# Altium schematic symbol library HW_ADHERENT_SYSCTRL_R1_L2.SCHLIB: 1987 symbols (part 4 of 38)
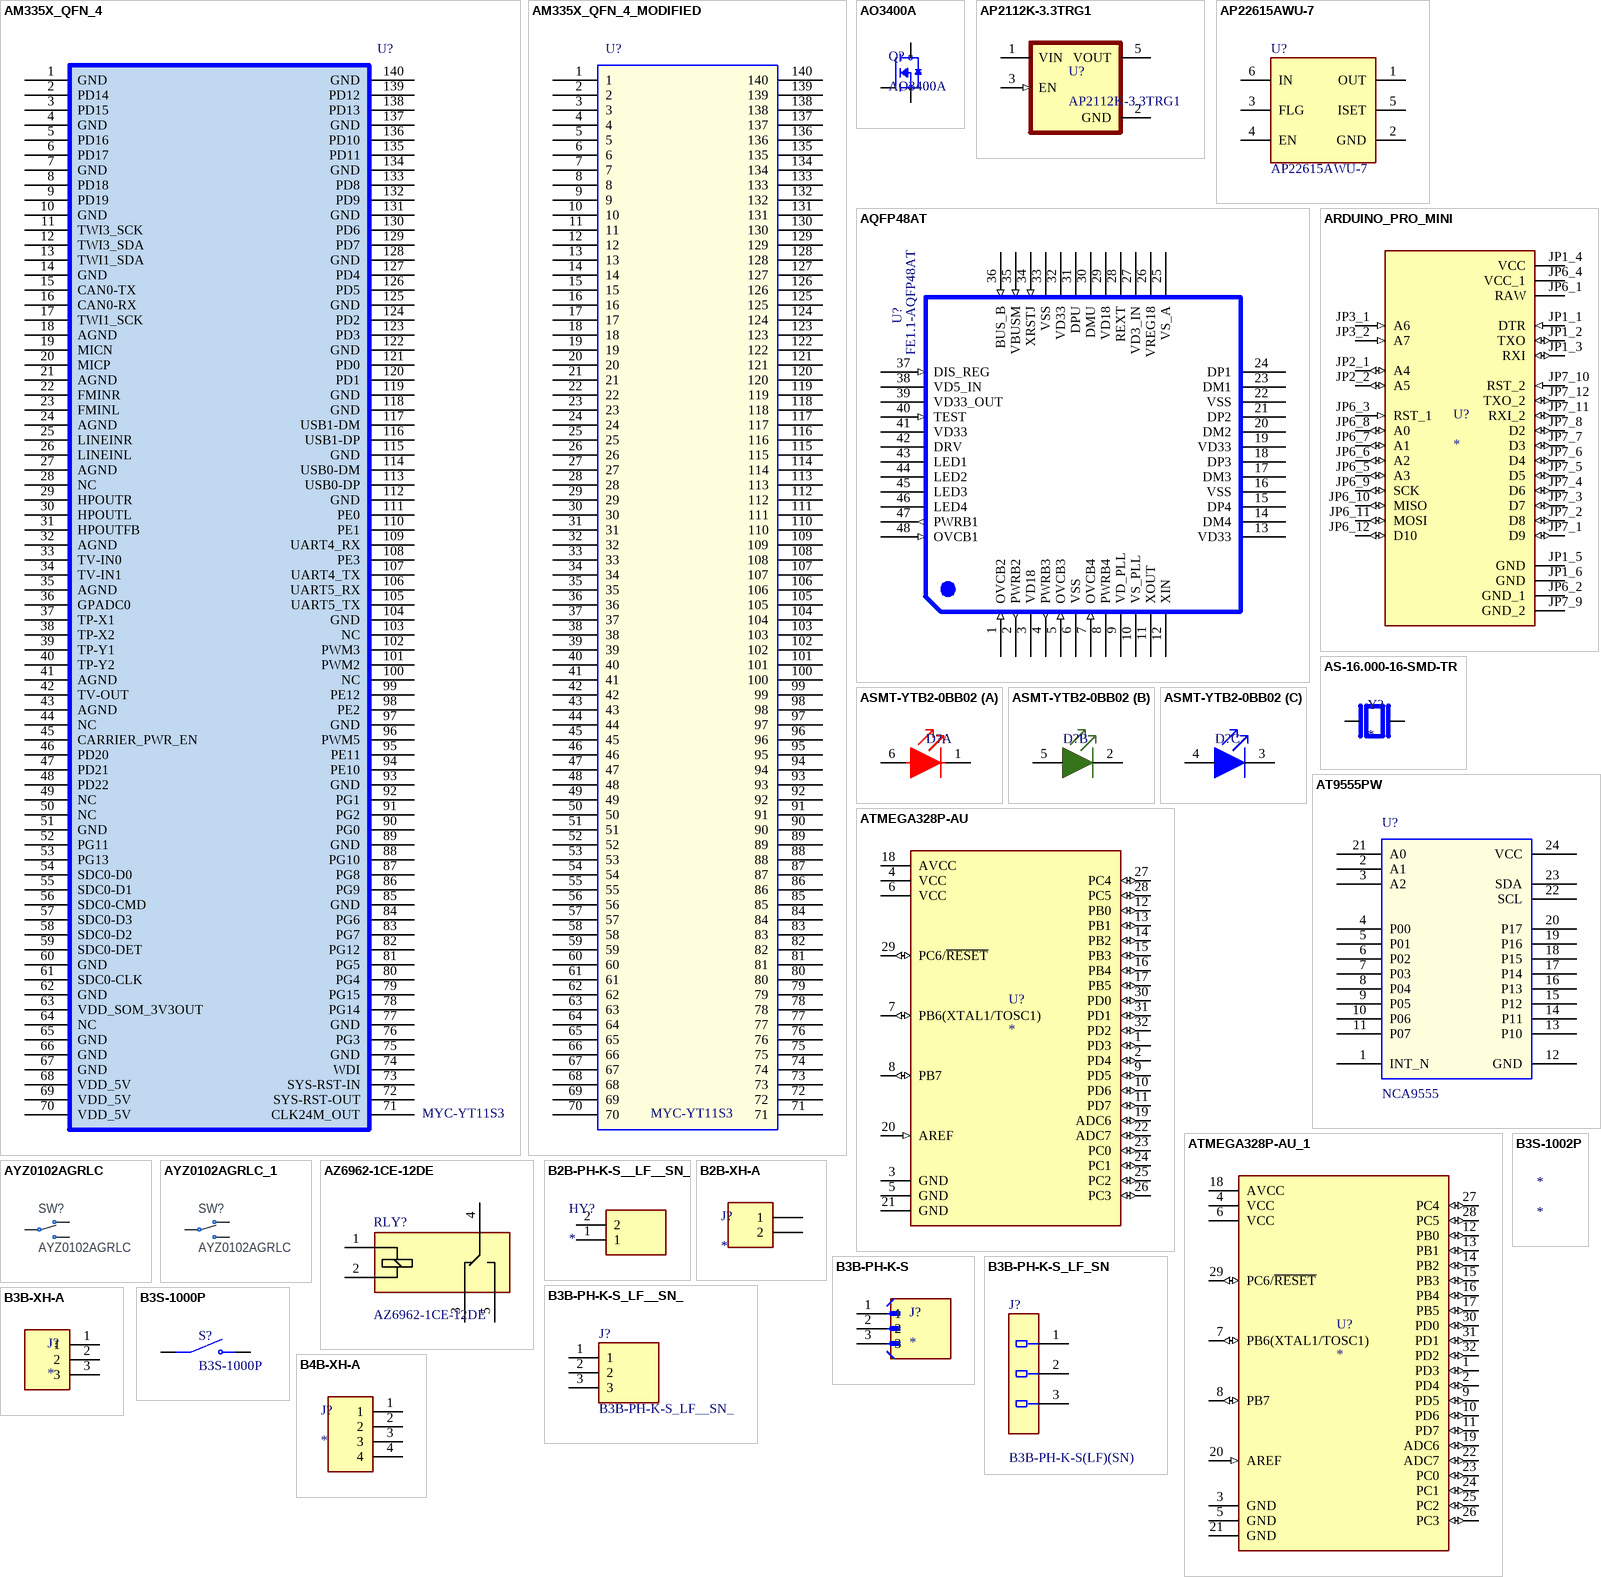
[diagram p65: symbols AM335X_QFN_4 to B4B-XH-A]

## B3S-1002P
designator *
Switch Tactile N.O. SPST Round Button Gull Wing 0.05A 24VDC 300000Cycles 2.26N SMD T/R; Manufacturer: Omron; Manufacturer Part Number: B3S-1002P; Number of Positions: 2NUMBER; Supplier 1: Digikey; RoHS: Yes; Category: Tactile Switches; Stock 1: 127000; Pricing 1: 1000=0.57994, 3000=0.52722, 5000=0.49207, 10000=0.45692 (USD); Contact Material: 150ConductorMaterial; Contact Plating: 159ConductorMaterial; Lead Free: 5697LeadFree; ComponentLink1URL: https://datasheet.ciiva.com/1701/490609-1701107.pdf?src-supplier=Newark; ComponentLink1Description: https://datasheet.ciiva.com/1701/490609-1701107.pdf?src-supplier=Newark; ComponentLink2URL: https://datasheet.ciiva.com/15198/getdatasheetpartid-174803-15198988.pdf?src-supplier=Verical; ComponentLink2Description: https://datasheet.ciiva.com/15198/getdatasheetpartid-174803-15198988.pdf?src-supplier=Verical; ComponentLink3URL: https://datasheet.ciiva.com/15198/getdatasheetpartid-388874-15198987.pdf?src-supplier=Verical; ComponentLink3Description: https://datasheet.ciiva.com/15198/getdatasheetpartid-388874-15198987.pdf?src-supplier=Verical; ComponentLink4URL: https://datasheet.ciiva.com/30228/en-b3s-30228152.pdf?src-supplier=Onlinecomponents.com; ComponentLink4Description: https://datasheet.ciiva.com/30228/en-b3s-30228152.pdf?src-supplier=Onlinecomponents.com; ComponentLink5URL: https://datasheet.ciiva.com/2899/b3s-1110-2899956.pdf?src-supplier=Digikey; ComponentLink5Description: https://datasheet.ciiva.com/2899/b3s-1110-2899956.pdf?src-supplier=Digikey; ComponentLink6URL: https://datasheet.ciiva.com/2899/b3s-1110-2899957.pdf?src-supplier=Digikey; ComponentLink6Description: https://datasheet.ciiva.com/2899/b3s-1110-2899957.pdf?src-supplier=Digikey; ComponentLink7URL: https://datasheet.ciiva.com/2899/b3s-1110-2899958.pdf?src-supplier=Digikey; ComponentLink7Description: https://datasheet.ciiva.com/2899/b3s-1110-2899958.pdf?src-supplier=Digikey; Supplier Part Number 1: SW837TR-ND

## B4B-XH-A
designator J?
MF: {'manufacturer': u'JST Sales America Inc.'}; MP: B4B-XH-A; Package: None; Price: None; Value: *; Availability: Unavailable
footprint JST_B4B-XH-A
pins: 1, 2, 3, 4

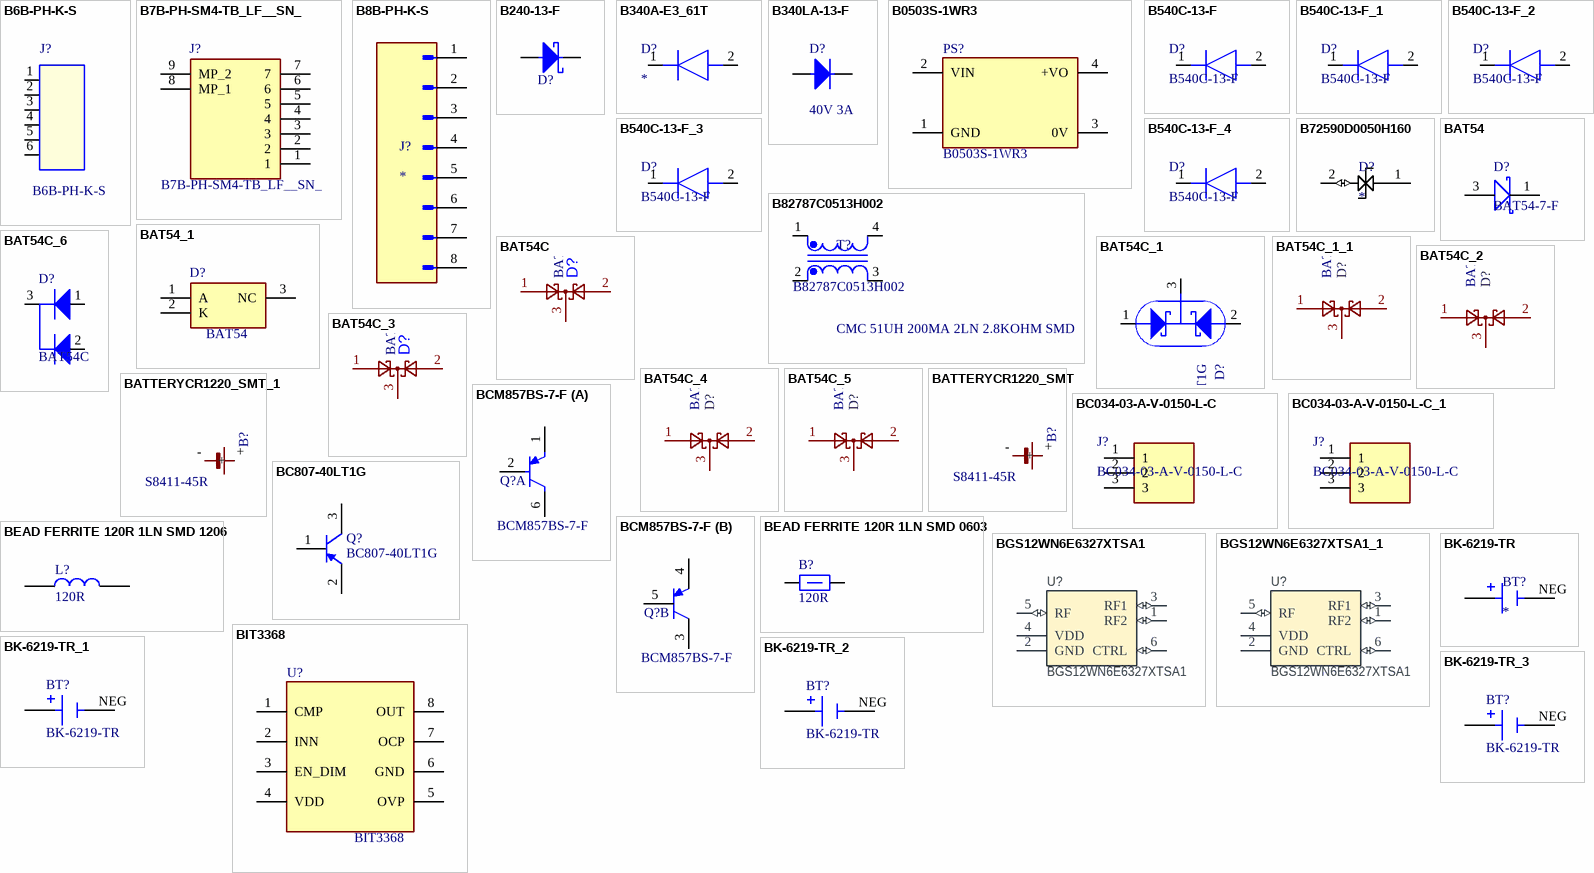
[diagram p6: symbols B6B-PH-K-S to BK-6219-TR_3]

## B6B-PH-K-S
designator J?
Connector,Straight,Top type 6Pin 2.0mm Pitch H=6mm,DIP,JST; PCB Footprint: CONN-B6B-PH-K-S; Myir P/N: 21122.00013; Datasheet: B6B-PH-K-S.pdf; Reserve Value: B6B-PH-K-S; Manufacturer P/N: B6B-PH-K-S; Manufacturer: JST; Part Type: Connector
footprint B6B-PH-K-S
footprint CONN-B6B-PH-K-S
pins: 1, 2, 3, 4, 5, 6

## B7B-PH-SM4-TB_LF__SN_
designator J?
JST PH Series 2 mm Pitch 7 Position SMT Single Row Top Entry Shrouded Header; Manufacturer_Name: JST (JAPAN SOLDERLESS TERMINALS); Manufacturer_Part_Number: B7B-PH-SM4-TB(LF)(SN); Geometry.Height: 6.6mm; Mouser Part Number: 306-B7BPHSM4TBLFSN; Mouser Price/Stock: https://www.mouser.co.uk/ProductDetail/JST-Commercial/B7B-PH-SM4-TBLFSN?qs=dbcCsuKDzFUgZwsE63VugA%3D%3D; Arrow Part Number: *; Arrow Price/Stock: *; Datasheet Link: 111
footprint B7BPHSM4TBLFSN
pins: 1, 2, 3, 4, 5, 6, 7, 8 MP_1, 9 MP_2

## B8B-PH-K-S
designator J?
2.0 mm pitch/Disconnectable Crimp style connectors; MF: JST; MP: B8B-PH-K-S; SnapEDA_Link: https://www.snapeda.com/parts/B8B-PH-K-S/JST/view-part/?ref=snap; Package: None; Value: *; Check_prices: https://www.snapeda.com/parts/B8B-PH-K-S/JST/view-part/?ref=eda
footprint JST_B8B-PH-K-S
pins: 1, 2, 3, 4, 5, 6, 7, 8

## B240-13-F
designator D?, comment 40V 2A  (value not drawn)
Diode 40 V 2A Surface Mount SMB; Manufacturer Part Number: B240-13-F; Manufacturer: Diodes Incorporated
footprint Diodes_Inc._SMB_MFG
pins: 1 C, 2 A

## B340A-E3_61T
designator D?
Diode; Manufacturer_Name: Vishay; Manufacturer_Part_Number: B340A-E3/61T; Datasheet Link: https://ms.componentsearchengine.com/Datasheets/2/B340A-E3_61T.pdf; Height: 2.29mm; Mouser Part Number: 625-BD340A-E3/61T; Mouser Price/Stock: https://www.mouser.co.uk/ProductDetail/Vishay-General-Semiconductor/B340A-E3-61T?qs=tdXsjSi%2FIMY4I2dGLbnpzg%3D%3D; Arrow Part Number: B340A-E3/61T; Arrow Price/Stock: https://www.arrow.com/en/products/b340a-e361t/vishay?region=nac
footprint DIOM5127X229N
pins: 1 K, 2 A

## B340LA-13-F
designator D?, comment Rated: 40V 3A  (hidden comment: DIODE SCHOTTKY 40V 3A SMA)
Diode 40 V 3A Surface Mount SMA; Manufacturer Part Number: B340LA-13-F
footprint Diodes_SMA_0
pins: 1 C, 2 A

## B0503S-1WR3
designator PS?
Isolated Module DC DC Converter 1 Output 3.3V 303mA 4.5V - 5.5V Input; Manufacturer_Name: Mornsun Power; Height: 10.41mm; Manufacturer Part Number: B0503S-1WR3
footprint B0503S1WR3
pins: 1 GND, 2 VIN, 3 0V, 4 +VO

## B540C-13-F
designator D?
Manufacturer_Name: Diodes Incorporated; Datasheet Link: https://componentsearchengine.com/Datasheets/2/B540C-13-F.pdf; Height: 2.5mm; Manufacturer_Part_Number: B540C-13-F; Mouser Part Number: 621-B540C-F; Mouser Price/Stock: https://www.mouser.co.uk/ProductDetail/Diodes-Incorporated/B540C-13-F?qs=v2dnQLbuoRZXHN%2FK4ft5%252Bg%3D%3D; Arrow Part Number: B540C-13-F; Arrow Price/Stock: https://www.arrow.com/en/products/b540c-13-f/diodes-incorporated?region=nac
footprint DIOM7959X250N
pins: 1 K, 2 A

## B540C-13-F_1
designator D?, comment B540C-13-F
Manufacturer_Name: Diodes Incorporated; Datasheet Link: https://componentsearchengine.com/Datasheets/2/B540C-13-F.pdf; Height: 2.5mm; Manufacturer_Part_Number: B540C-13-F; Mouser Part Number: 621-B540C-F; Mouser Price/Stock: https://www.mouser.co.uk/ProductDetail/Diodes-Incorporated/B540C-13-F?qs=v2dnQLbuoRZXHN%2FK4ft5%252Bg%3D%3D; Arrow Part Number: B540C-13-F; Arrow Price/Stock: https://www.arrow.com/en/products/b540c-13-f/diodes-incorporated?region=nac
footprint DIOM7959X250N
pins: 1 K, 2 A

## B540C-13-F_2
designator D?, comment B540C-13-F
Manufacturer_Name: Diodes Incorporated; Datasheet Link: https://componentsearchengine.com/Datasheets/2/B540C-13-F.pdf; Height: 2.5mm; Manufacturer_Part_Number: B540C-13-F; Mouser Part Number: 621-B540C-F; Mouser Price/Stock: https://www.mouser.co.uk/ProductDetail/Diodes-Incorporated/B540C-13-F?qs=v2dnQLbuoRZXHN%2FK4ft5%252Bg%3D%3D; Arrow Part Number: B540C-13-F; Arrow Price/Stock: https://www.arrow.com/en/products/b540c-13-f/diodes-incorporated?region=nac
footprint DIOM7959X250N
pins: 1 K, 2 A

## B540C-13-F_3
designator D?, comment B540C-13-F
Manufacturer_Name: Diodes Incorporated; Datasheet Link: https://componentsearchengine.com/Datasheets/2/B540C-13-F.pdf; Height: 2.5mm; Manufacturer_Part_Number: B540C-13-F; Mouser Part Number: 621-B540C-F; Mouser Price/Stock: https://www.mouser.co.uk/ProductDetail/Diodes-Incorporated/B540C-13-F?qs=v2dnQLbuoRZXHN%2FK4ft5%252Bg%3D%3D; Arrow Part Number: B540C-13-F; Arrow Price/Stock: https://www.arrow.com/en/products/b540c-13-f/diodes-incorporated?region=nac
footprint DIOM7959X250N
pins: 1 K, 2 A

## B540C-13-F_4
designator D?, comment B540C-13-F
Manufacturer_Name: Diodes Incorporated; Datasheet Link: https://componentsearchengine.com/Datasheets/2/B540C-13-F.pdf; Height: 2.5mm; Manufacturer_Part_Number: B540C-13-F; Mouser Part Number: 621-B540C-F; Mouser Price/Stock: https://www.mouser.co.uk/ProductDetail/Diodes-Incorporated/B540C-13-F?qs=v2dnQLbuoRZXHN%2FK4ft5%252Bg%3D%3D; Arrow Part Number: B540C-13-F; Arrow Price/Stock: https://www.arrow.com/en/products/b540c-13-f/diodes-incorporated?region=nac
footprint DIOM7959X250N
pins: 1 K, 2 A

## B72590D0050H160
designator D?
VARISTOR 150V 0402; Manufacturer: TDK EPCOS; Manufacturer Part Number: B72590D0050H160; Supplier 1: Digikey; RoHS: Yes; Category: Varistors; Stock 1: 130000; Pricing 1: 10000=0,04977, 30000=0,04666, 50000=0,04137, 100000=0,04044, 250000=0,03982 (USD); ComponentLink1URL: https://datasheet.octopart.com/B72590D0050H160-EPCOS-datasheet-10468447.pdf?src-supplier=Newark; ComponentLink1Description: https://datasheet.octopart.com/B72590D0050H160-EPCOS-datasheet-10468447.pdf?src-supplier=Newark; ComponentLink2URL: https://en.tdk.eu/inf/75/ds/High_speed_series.pdf?src-supplier=Verical; ComponentLink2Description: https://en.tdk.eu/inf/75/ds/High_speed_series.pdf?src-supplier=Verical; ComponentLink3URL: http://www.farnell.com/datasheets/1706828.pdf?src-supplier=Newark; ComponentLink3Description: http://www.farnell.com/datasheets/1706828.pdf?src-supplier=Newark; ComponentLink4URL: https://en.tdk.eu/inf/75/ds/High_speed_series.pdf?src-supplier=Digikey; ComponentLink4Description: https://en.tdk.eu/inf/75/ds/High_speed_series.pdf?src-supplier=Digikey; ComponentLink5URL: https://www.tdk-electronics.tdk.com/inf/75/ds/High_speed_series.pdf?src-supplier=Digikey; ComponentLink5Description: https://www.tdk-electronics.tdk.com/inf/75/ds/High_speed_series.pdf?src-supplier=Digikey; ComponentLink6URL: https://en.tdk.eu/inf/75/ds/High_speed_series.pdf?src-supplier=Arrow+Electronics; ComponentLink6Description: https://en.tdk.eu/inf/75/ds/High_speed_series.pdf?src-supplier=Arrow+Electronics; ComponentLink7URL: https://en.tdk.eu/inf/75/ds/High_speed_series.pdf?src-supplier=Quest; ComponentLink7Description: https://en.tdk.eu/inf/75/ds/High_speed_series.pdf?src-supplier=Quest; ComponentLink8URL: https://datasheet.octopart.com/B72590D0050H160-EPCOS-datasheet-157245974.pdf?src-supplier=LKR; ComponentLink8Description: https://datasheet.octopart.com/B72590D0050H160-EPCOS-datasheet-157245974.pdf?src-supplier=LKR; ComponentLink9URL: https://en.tdk.eu/inf/75/ds/High_speed_series.pdf?src-supplier=TTI; ComponentLink9Description: https://en.tdk.eu/inf/75/ds/High_speed_series.pdf?src-supplier=TTI; Supplier Part Number 1: 495-3684-2-ND
footprint SOD1005X60N
pins: 1 GND, 2 I/OLINE (io)

## B82787C0513H002
designator T?, comment CMC 51UH 200MA 2LN 2.8KOHM SMD  Manufacturer Part Number: B82787C0513H002
51 µH @ 100 kHz 2 Line Common Mode Choke Surface Mount 2.8 kOhms @ 10 MHz 200mA DCR 1Ohm; Order Code: DIGI: 495-4597-2-ND
footprint EPCOS_COMMON_MODE_CHOKE
pins: 1, 2, 3, 4

## BAT54
designator D?, comment BAT54-7-F
Manufacturer: Diodes Inc.; Manufacturer Part Number: BAT54-7-F; LCSC: C106920
footprint SOT-23
pins: 1, 3

## BAT54_1
designator D?, comment BAT54
Schottky Diodes & Rectifiers SOT23.0.2A 30V Schot tky; Geometry.Height: 1.1mm; Manufacturer_Part_Number: BAT54; Mouser Part Number: 583-BAT54; Mouser Price/Stock: https://www.mouser.co.uk/ProductDetail/Rectron/BAT54?qs=7pEAo90IqNGfz6H44jcxUA%3D%3D; Arrow Part Number: BAT54; Arrow Price/Stock: https://www.arrow.com/en/products/bat54/rectron?utm_currency=USD&region=nac; Datasheet Link: https://www.rectron.com/data_sheets/bat54.pdf; LCSC: C545546
footprint SOT95P240X110-3N
pins: 1 A, 2 K, 3 NC

## BAT54C
designator D?, comment BAT54C-7-F
DIODE ARRAY SCHOTTKY 30V SOT23-3; Manufacturer: Diodes Incorporated; Value: BAT54C-7-F; Footprint: Package_TO_SOT_SMD:SOT-23; Manufacturer Part Number: BAT54C-7-F; Supplier Part Number: BAT54C-FDICT-ND
footprint SOT23-3
pins: 1, 2, 3

## BAT54C_1
designator D?, comment LBAT54CLT1G
Diode Dual Schottky,30V,200mA,SMD,SOT-23,LRC; Myir P/N: 20701.00054; PCB Footprint: SOT-23; Part Type: Diode; Manufacturer: LRC; Manufacturer P/N: LBAT54CLT1G; Reserve Value: LBAT54CLT1G; Datasheet: LBAT54CLT1G.pdf
footprint SOT23T02
footprint SOT-23
pins: 1 ANODE, 2 NC, 3 CATHODE

## BAT54C_1_1
designator D?, comment BAT54C-7-F
DIODE ARRAY SCHOTTKY 30V SOT23-3; Manufacturer: Diodes Incorporated; Value: BAT54C-7-F; Footprint: Package_TO_SOT_SMD:SOT-23; Manufacturer Part Number: BAT54C-7-F; Supplier Part Number: BAT54C-FDICT-ND
footprint SOT23-3
pins: 1, 2, 3

## BAT54C_2
designator D?, comment BAT54C-7-F
DIODE ARRAY SCHOTTKY 30V SOT23-3; Manufacturer: Diodes Incorporated; Value: BAT54C-7-F; Footprint: Package_TO_SOT_SMD:SOT-23; Manufacturer Part Number: BAT54C-7-F; Supplier Part Number: BAT54C-FDICT-ND
footprint SOT23-3
pins: 1, 2, 3

## BAT54C_3
designator D?, comment BAT54C-7-F
DIODE ARRAY SCHOTTKY 30V SOT23-3; Manufacturer: Diodes Incorporated; Value: BAT54C-7-F; Footprint: Package_TO_SOT_SMD:SOT-23; Manufacturer Part Number: BAT54C-7-F; Supplier Part Number: BAT54C-FDICT-ND
footprint SOT23-3
pins: 1, 2, 3

## BAT54C_4
designator D?, comment BAT54C-7-F
DIODE ARRAY SCHOTTKY 30V SOT23-3; Manufacturer: Diodes Incorporated; Value: BAT54C-7-F; Footprint: Package_TO_SOT_SMD:SOT-23; Manufacturer Part Number: BAT54C-7-F; Supplier Part Number: BAT54C-FDICT-ND
footprint SOT23-3
pins: 1, 2, 3

## BAT54C_5
designator D?, comment BAT54C-7-F
DIODE ARRAY SCHOTTKY 30V SOT23-3; Manufacturer: Diodes Incorporated; Value: BAT54C-7-F; Footprint: Package_TO_SOT_SMD:SOT-23; Manufacturer Part Number: BAT54C-7-F; Supplier Part Number: BAT54C-FDICT-ND
footprint SOT23-3
pins: 1, 2, 3

## BAT54C_6
designator D?, comment BAT54C
MPN: BAT54CTA; LCSC: C460164
footprint SOT-23
pins: 1, 2, 3

## BATTERYCR1220_SMT
designator B?, comment S8411-45R
BATT HOLDER COIN 12MM 1 CELL SMD; Manufacturer: Harwin Inc.; Value: S8411-45R; Manufacturer Part Number: S8411-45R; Supplier Part Number: 952-1745-1-ND
footprint BATT_S8411-45R (S8411-45R)
pins: +, -

## BATTERYCR1220_SMT_1
designator B?, comment S8411-45R
BATT HOLDER COIN 12MM 1 CELL SMD; Manufacturer: Harwin Inc.; Value: S8411-45R; Manufacturer Part Number: S8411-45R
footprint BATT_S8411-45R (S8411-45R)
pins: +, -

## BC034-03-A-V-0150-L-C
designator J?
Connector Header Surface Mount, Right Angle 3 position 0.039" (1.00mm); Manufacturer_Name: GCT (GLOBAL CONNECTOR TECHNOLOGY); Datasheet Link: https://www.enrgtech.co.uk/product/rectangular-connectors-headers-male-pins/ET20300807/BC034-03-A-V-0150-L-C; Height: 1.65mm; Manufacturer_Part_Number: BC034-03-A-V-0150-L-C; Mouser Part Number: 640-BC03403AV0150LC; Mouser Price/Stock: https://www.mouser.co.uk/ProductDetail/GCT/BC034-03-A-V-0150-L-C?qs=KUoIvG%2F9IlZyIzsUtGv%2F4w%3D%3D
footprint BC03403AV0150LC
pins: 1, 2, 3

## BC034-03-A-V-0150-L-C_1
designator J?, comment BC034-03-A-V-0150-L-C
Connector Header Surface Mount, Right Angle 3 position 0.039" (1.00mm); Manufacturer_Name: GCT (GLOBAL CONNECTOR TECHNOLOGY); Datasheet Link: https://www.enrgtech.co.uk/product/rectangular-connectors-headers-male-pins/ET20300807/BC034-03-A-V-0150-L-C; Height: 1.65mm; Manufacturer_Part_Number: BC034-03-A-V-0150-L-C; Mouser Part Number: 640-BC03403AV0150LC; Mouser Price/Stock: https://www.mouser.co.uk/ProductDetail/GCT/BC034-03-A-V-0150-L-C?qs=KUoIvG%2F9IlZyIzsUtGv%2F4w%3D%3D
footprint BC03403AV0150LC
pins: 1, 2, 3

## BC807-40LT1G
designator Q?
General Purpose Transistor, PNP Silicon, 3-Pin SOT-23, Pb-Free, Tape and Reel; Manufacturer: ON Semiconductor; Max Power Dissipation: 300mW; hFE Min: 250; Number of Elements: 1; Collector Emitter Voltage (VCEO): 45V; Frequency: 100MHz; Emitter Base Voltage (VEBO): 5V; Max Collector Current: 500mA; Collector Base Voltage (VCBO): 50V; Collector Emitter Saturation Voltage: -700mV; Element Configuration: Single; Collector-emitter Voltage-Max: 700mV; ComponentLink3URL: http://www.onsemi.cn/pub_link/Collateral/318-08.PDF; ComponentLink1URL: http://www.onsemi.com/; ComponentLink2URL: http://www.onsemi.com/pub_link/Collateral/BC807-16LT1-D.PDF; ComponentLink1Description: Manufacturer URL; ComponentLink3Description: Package Specification; ComponentLink2Description: Datasheet; Supplier 1: Digi-Key; Supplier Part Number 1: BC807-40LT1GOSCT-ND; Manufacturer Part Number: BC807-40LT1G; RoHS: Yes; Category: BJTs; Pricing 1: 1=0,21000, 10=0,19600, 100=0,10690, 500=0,06576, 1000=0,04484 (USD); Case/Package: SOT-23-3; Number of Pins: 3; Contact Plating: Tin,Matte; Min Operating Temperature: -55°C; Max Operating Temperature: 150°C; Package Quantity: 1; Packaging: Tape and Reel; Polarity: PNP; Transition Frequency: 100MHz; Collector Emitter Breakdown Voltage: 45V; Power Dissipation: 300mW; Gain Bandwidth Product: 100MHz; Series: BC807-40L; Max Breakdown Voltage: 45V; Max Frequency: 100MHz; Length: 2.9mm; Width: 1.3mm; Height: 0.94mm; Radiation Hardening: No; Lead Free: Lead Free; Halogen Free: Halogen Free; RoHS Compliant: Yes; REACH SVHC: No SVHC; ComponentLink4URL: https://datasheet.ciiva.com/15138/getdatasheetpartid-38541-15138619.pdf?src-supplier=Verical; ComponentLink4Description: https://datasheet.ciiva.com/15138/getdatasheetpartid-38541-15138619.pdf?src-supplier=Verical; ComponentLink5URL: https://datasheet.ciiva.com/976/bc807-16lt1-d-976422.pdf?src-supplier=Digi-Key; ComponentLink5Description: https://datasheet.ciiva.com/976/bc807-16lt1-d-976422.pdf?src-supplier=Digi-Key; ComponentLink6URL: https://datasheet.ciiva.com/976/bc807-16lt1-d-976423.pdf?src-supplier=Digi-Key; ComponentLink6Description: https://datasheet.ciiva.com/976/bc807-16lt1-d-976423.pdf?src-supplier=Digi-Key; ComponentLink7URL: https://datasheet.ciiva.com/976/bc807-16lt1-d-976424.pdf?src-supplier=Digi-Key; ComponentLink7Description: https://datasheet.ciiva.com/976/bc807-16lt1-d-976424.pdf?src-supplier=Digi-Key; ComponentLink8URL: https://datasheet.ciiva.com/22633/1575992-22633676.pdf?src-supplier=Element14; ComponentLink8Description: https://datasheet.ciiva.com/22633/1575992-22633676.pdf?src-supplier=Element14; ComponentLink9URL: https://datasheet.ciiva.com/16213/bc807-16lt1-d-16213981.pdf?src-supplier=Future+Electronics; ComponentLink9Description: https://datasheet.ciiva.com/16213/bc807-16lt1-d-16213981.pdf?src-supplier=Future+Electronics; ComponentLink10URL: https://datasheet.ciiva.com/22633/1575992-22633677.pdf?src-supplier=Element14; ComponentLink10Description: https://datasheet.ciiva.com/22633/1575992-22633677.pdf?src-supplier=Element14; ComponentLink11URL: https://datasheet.ciiva.com/25917/bc807-16lt1-d-25917198.pdf?src-supplier=Avnet+Europe; ComponentLink11Description: https://datasheet.ciiva.com/25917/bc807-16lt1-d-25917198.pdf?src-supplier=Avnet+Europe; LCSC Part Number: BC807-40LT1G
footprint ONSC-SOT-23-3-318-08_V
pins: 1 B, 2 E, 3 C

## BCM857BS-7-F
designator Q?, comment Manufacturer Part Number: BCM857BS-7-F  (hidden comment: TRANS 2PNP 45V 0.1A SOT36)
Bipolar (BJT) Transistor Array 2 PNP (Dual) 45V 100mA 100MHz 200mW Surface Mount SOT-363; Order Code: DIGI: BCM857BS-7-FDITR-ND
footprint Diodes_Inc_SOT363_IPC_A
footprint Diodes_Inc_SOT363_IPC_B
footprint Diodes_Inc_SOT363_IPC_C
footprint Diodes_Inc_SOT363_MFG
part A pins: 1 E1, 2 B1, 6 C1
part B pins: 3 C2, 4 E2, 5 B2

## BEAD FERRITE 120R 1LN SMD 0603
designator B?  value 120R  (hidden comment: BEAD FERRITE 120R 1LN SMD 0603)
Manufacturer: MURATA; Manufacturer Part Name: BLM18PG121SN1D; Code: 3030007; Family: BEAD; Supplier: Digikey; Supplier No: 490-1037-2-ND; Package Reference: F1206
footprint F0603 (WE-CBF SMD EMI Suppression Ferrite Bead)
pins: 1, 2

## BEAD FERRITE 120R 1LN SMD 1206
designator L?  value 120R  (hidden comment: BEAD FERRITE 120R 1LN SMD 1206)
Manufacturer: LAIRD; Manufacturer Part Name: LI1206H121R-10; Code: 3030001; Family: BEAD; Supplier: Digikey; Supplier No: 240-2401-2-ND; Package Reference: F1206
footprint F1206N (Chip Inductor, Body 3.2x1.6mm, IPC Medium Density)
pins: 1, 2

## BGS12WN6E6327XTSA1
designator U?, comment value BGS12WN6E6327XTSA1  (hidden comment: BGS12xN6)
Wideband SPDT RF Switch, 50MHz-6GHz. Max 26dBm, 1.65-3.6V; Manufacturer: Infineon Technologies; Part number NEMS: 101900784; Component Status: Active; Pad Count: 6; Note: N.A.; Part Number: BGS12WN6E6327XTSA1; Component Class: Misc_ICs; Author: getr; Manufacturer Part Number: BGS12WN6E6327XTSA1; ComponentLink1URL: https://www.infineon.com/dgdl/Infineon-BGS12WN6-DataSheet-v01_00-EN.pdf?fileId=5546d4626b2d8e69016b89d2b3334727; ComponentLink1Description: Datasheet; ComponentLink2URL: https://www.digikey.no/en/products/detail/infineon-technologies/BGS12WN6E6327XTSA1/11500249?s=N4IgTCBcDaIEIHEDKBGMB1AcgNgKLYGYwB2ADQBUkBBFEAXQF8g; ComponentLink2Description: Supplier link; HelpURL: https://www.infineon.com/cms/en/product/rf/rf-switches-spxt-dpxt/bgs12wn6/; LatestRevisionDate: 2023-06-26; Published: 2023-06-26; Footprint Doc: TSNP-6-8; Supplier 1: Digi-Key; Supplier Part Number 1: 448-BGS12WN6E6327XTSA1CT-ND; Supplier 2: N.A.; Supplier Part Number 2: N.A.; Artikkelnr Noca: N.A.; Part number IPS: N.A.; Part number Norautron: N.A.; PartId: 101900784
footprint TSNP-6-8
pins: 1 RF2 (io), 2 GND (power), 3 RF1 (io), 4 VDD (power), 5 RF (io), 6 CTRL (io), 8 NC hidden

## BGS12WN6E6327XTSA1_1
designator U?, comment value BGS12WN6E6327XTSA1  (hidden comment: BGS12xN6)
Wideband SPDT RF Switch, 50MHz-6GHz. Max 26dBm, 1.65-3.6V; Manufacturer: Infineon Technologies; Part number NEMS: 101900784; Component Status: Active; Pad Count: 6; Note: N.A.; Part Number: BGS12WN6E6327XTSA1; Component Class: Misc_ICs; Author: getr; Manufacturer Part Number: BGS12WN6E6327XTSA1; ComponentLink1URL: https://www.infineon.com/dgdl/Infineon-BGS12WN6-DataSheet-v01_00-EN.pdf?fileId=5546d4626b2d8e69016b89d2b3334727; ComponentLink1Description: Datasheet; ComponentLink2URL: https://www.digikey.no/en/products/detail/infineon-technologies/BGS12WN6E6327XTSA1/11500249?s=N4IgTCBcDaIEIHEDKBGMB1AcgNgKLYGYwB2ADQBUkBBFEAXQF8g; ComponentLink2Description: Supplier link; HelpURL: https://www.infineon.com/cms/en/product/rf/rf-switches-spxt-dpxt/bgs12wn6/; LatestRevisionDate: 2023-06-26; Published: 2023-06-26; Footprint Doc: TSNP-6-8; Supplier 1: Digi-Key; Supplier Part Number 1: 448-BGS12WN6E6327XTSA1CT-ND; Supplier 2: N.A.; Supplier Part Number 2: N.A.; Artikkelnr Noca: N.A.; Part number IPS: N.A.; Part number Norautron: N.A.; PartId: 101900784
footprint TSNP-6-8
pins: 1 RF2 (io), 2 GND (power), 3 RF1 (io), 4 VDD (power), 5 RF (io), 6 CTRL (io), 8 NC hidden

## BIT3368
designator U?, comment Manufacturer Part Number: BIT3368  (hidden comment: BIT3368 LED DRIVER CONTROLLER)
High Performance PWM Controller; Manufacturer: BITEK; LSCS Part Number: C5252694
footprint SOP-8_L4.9-W3.9-P1.27-LS6.0-BL
pins: 1 CMP, 2 INN, 3 EN_DIM, 4 VDD, 5 OVP, 6 GND, 7 OCP, 8 OUT

## BK-6219-TR
designator BT?
CR2025 BATTERY RETAINER, SMD; MP: BK-6219-TR; Package: None; Price: None; Value: *; Availability: Unavailable
footprint BAT_BK-6219-TR
pins: NEG, S+1 POS, S+2 POS

## BK-6219-TR_1
designator BT?, comment BK-6219-TR
CR2025 BATTERY RETAINER, SMD; Package: None; Price: None; Value: *; MP: BK-6219-TR; Availability: Unavailable
footprint BAT_BK-6219-TR
pins: NEG, S+1 POS, S+2 POS

## BK-6219-TR_2
designator BT?, comment BK-6219-TR
CR2025 BATTERY RETAINER, SMD; Package: None; Price: None; Value: *; MP: BK-6219-TR; Availability: Unavailable
footprint BAT_BK-6219-TR
pins: NEG, S+1 POS, S+2 POS

## BK-6219-TR_3
designator BT?, comment BK-6219-TR
CR2025 BATTERY RETAINER, SMD; Package: None; Price: None; Value: *; MP: BK-6219-TR; Availability: Unavailable
footprint BAT_BK-6219-TR
pins: NEG, S+1 POS, S+2 POS

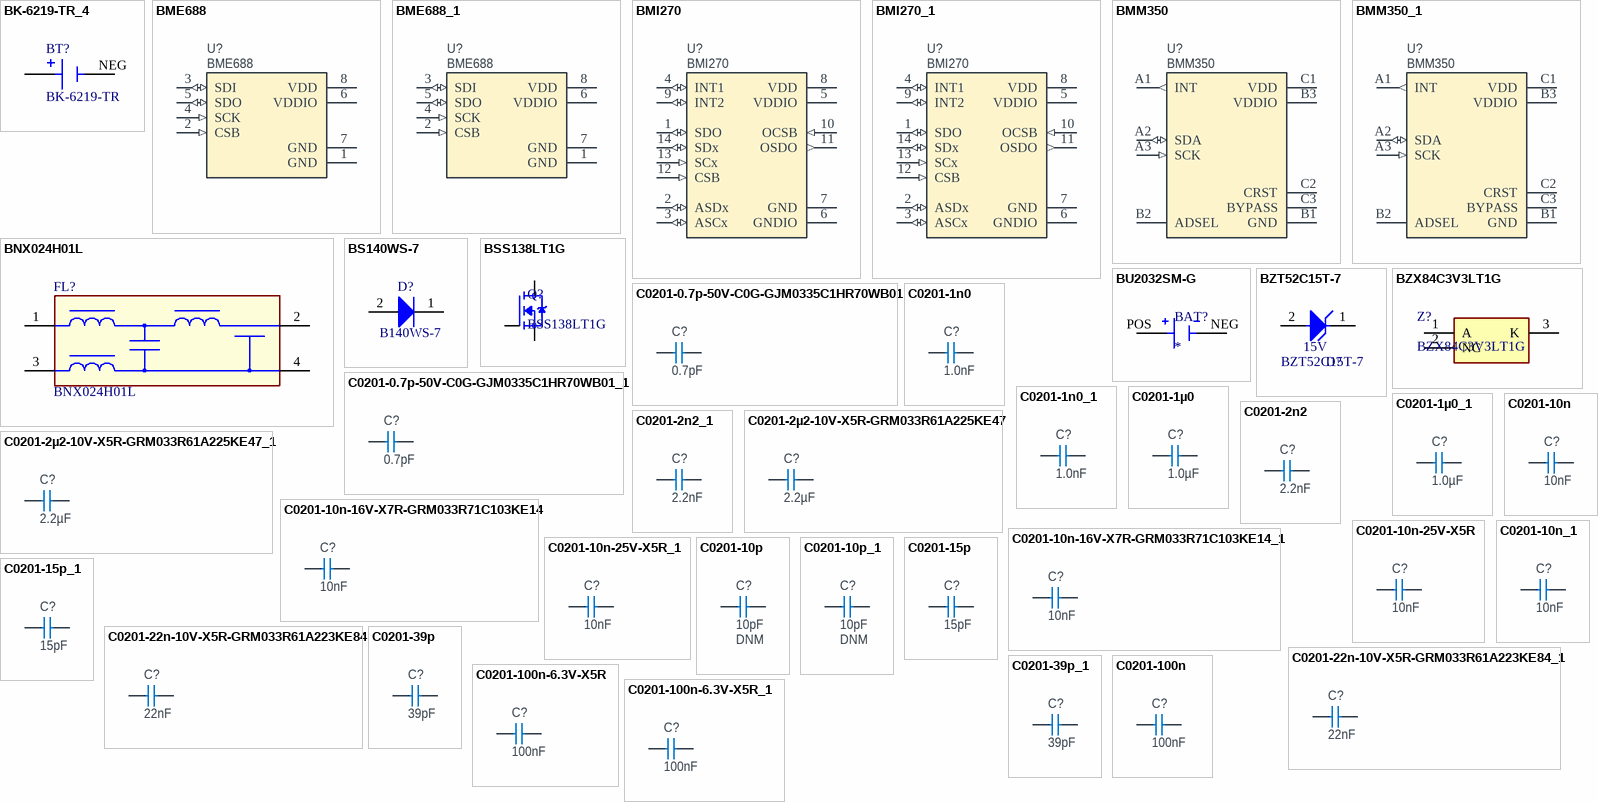
[diagram p7: symbols BK-6219-TR_4 to C0201-100n-6.3V-X5R_1]

## BK-6219-TR_4
designator BT?, comment BK-6219-TR
CR2025 BATTERY RETAINER, SMD; Package: None; Price: None; Value: *; MP: BK-6219-TR; Availability: Unavailable
footprint BAT_BK-6219-TR
pins: NEG, S+1 POS, S+2 POS

## BME688
designator U?
Low power gas, pressure, temperature & humidity sensor; Manufacturer: Bosch; Part number NEMS: 101900619; Note: N.A.; Component Status: Active; Pad Count: 8; Part Number: BME688; Manufacturer Part Number: BME688; Footprint Doc: LGA-8; LatestRevisionDate: 2020-07-07; Published: 2020-07-07; Value: BME688; Artikkelnr Noca: N.A.; Part number IPS: N.A.; ComponentLink1URL: https://ae-bst.resource.bosch.com/media/_tech/media/datasheets/BST-BME680-DS001-00.pdf; ComponentLink1Description: Datasheet; ComponentLink2Description: Supplier link; HelpURL: N.A.; Supplier 1: Digi-Key; Supplier Part Number 1: N.A.; Supplier 2: N.A.; Supplier Part Number 2: N.A.; PartId: 101900619; Component Class: Misc_ICs; Author: rsk; ComponentLink2URL: N.A.; Part number Norautron: N.A.
footprint BME680
pins: 1 GND (power), 2 CSB (in), 3 SDI (io), 4 SCK (in), 5 SDO (io), 6 VDDIO (power) "1.2V - 3.6V", 7 GND (power), 8 VDD (power) "1.71V - 3.6V"

## BME688_1
designator U?, comment BME688
Low power gas, pressure, temperature & humidity sensor; Manufacturer: Bosch; Part number NEMS: 101900619; Note: N.A.; Component Status: Active; Pad Count: 8; Part Number: BME688; Manufacturer Part Number: BME688; Footprint Doc: LGA-8; LatestRevisionDate: 2020-07-07; Published: 2020-07-07; Value: BME688; Artikkelnr Noca: N.A.; Part number IPS: N.A.; ComponentLink1URL: https://ae-bst.resource.bosch.com/media/_tech/media/datasheets/BST-BME680-DS001-00.pdf; ComponentLink1Description: Datasheet; ComponentLink2Description: Supplier link; HelpURL: N.A.; Supplier 1: Digi-Key; Supplier Part Number 1: N.A.; Supplier 2: N.A.; Supplier Part Number 2: N.A.; PartId: 101900619; Component Class: Misc_ICs; Author: rsk; ComponentLink2URL: N.A.; Part number Norautron: N.A.
footprint BME680
pins: 1 GND (power), 2 CSB (in), 3 SDI (io), 4 SCK (in), 5 SDO (io), 6 VDDIO (power) "1.2V - 3.6V", 7 GND (power), 8 VDD (power) "1.71V - 3.6V"

## BMI270
designator U?
6-axis, smart, low-power, inertial measurement unit; Manufacturer: Bosch; Part number NEMS: 101900620; Note: N.A.; Pad Count: 14; Component Status: Active; Part Number: BMI270; Manufacturer Part Number: BMI270; ComponentLink1URL: https://www.bosch-sensortec.com/media/boschsensortec/downloads/datasheets/bst-bmi270-ds000.pdf; ComponentLink1Description: Datasheet; ComponentLink2URL: https://www.bosch-sensortec.com/products/motion-sensors/imus/bmi270.html; ComponentLink2Description: Supplier link; HelpURL: https://www.bosch-sensortec.com/media/boschsensortec/downloads/datasheets/bst-bmi270-ds000.pdf; Footprint Doc: LGA-14; LatestRevisionDate: 2021-08-03; Published: 2020-07-07; Value: BMI270; Supplier 1: Digi-Key; Supplier Part Number 1: 828-1091-1-ND; Supplier 2: Mouser; Supplier Part Number 2: 262-BMI270; Artikkelnr Noca: N.A.; Part number IPS: N.A.; Component Class: Misc_ICs; PartId: 101900620; Author: rsk; Part number Norautron: N.A.
footprint BMI270
pins: 1 SDO (io), 2 ASDx (io), 3 ASCx (io), 4 INT1 (io), 5 VDDIO (power), 6 GNDIO (power), 7 GND (power), 8 VDD (power), 9 INT2 (io), 10 OCSB (in), 11 OSDO (out), 12 CSB (in), 13 SCx (in), 14 SDx (io)

## BMI270_1
designator U?, comment BMI270
6-axis, smart, low-power, inertial measurement unit; Manufacturer: Bosch; Part number NEMS: 101900620; Note: N.A.; Pad Count: 14; Component Status: Active; Part Number: BMI270; Manufacturer Part Number: BMI270; ComponentLink1URL: https://www.bosch-sensortec.com/media/boschsensortec/downloads/datasheets/bst-bmi270-ds000.pdf; ComponentLink1Description: Datasheet; ComponentLink2URL: https://www.bosch-sensortec.com/products/motion-sensors/imus/bmi270.html; ComponentLink2Description: Supplier link; HelpURL: https://www.bosch-sensortec.com/media/boschsensortec/downloads/datasheets/bst-bmi270-ds000.pdf; Footprint Doc: LGA-14; LatestRevisionDate: 2021-08-03; Published: 2020-07-07; Value: BMI270; Supplier 1: Digi-Key; Supplier Part Number 1: 828-1091-1-ND; Supplier 2: Mouser; Supplier Part Number 2: 262-BMI270; Artikkelnr Noca: N.A.; Part number IPS: N.A.; Component Class: Misc_ICs; PartId: 101900620; Author: rsk; Part number Norautron: N.A.
footprint BMI270
pins: 1 SDO (io), 2 ASDx (io), 3 ASCx (io), 4 INT1 (io), 5 VDDIO (power), 6 GNDIO (power), 7 GND (power), 8 VDD (power), 9 INT2 (io), 10 OCSB (in), 11 OSDO (out), 12 CSB (in), 13 SCx (in), 14 SDx (io)

## BMM350
designator U?
Magnetoresistive Sensor X, Y, Z Axis 9-WLCSP (1.28x1.28); Manufacturer: Bosch Sensortec; Part number NEMS: 101900817; Component Status: Active; Pad Count: 9; Note: N.A.; Part Number: BMM350; PartId: 101900817; Component Class: Misc_ICs; Author: getr; Manufacturer Part Number: BMM350; ComponentLink1URL: https://www.bosch-sensortec.com/media/boschsensortec/downloads/datasheets/bst-bmm350-ds001.pdf; ComponentLink1Description: Datasheet; ComponentLink2URL: https://www.digikey.no/en/products/detail/bosch-sensortec/BMM350/17827576; ComponentLink2Description: Supplier link; HelpURL: https://www.bosch-sensortec.com/products/motion-sensors/magnetometers/bmm350/#description; LatestRevisionDate: 2024-04-26; Published: 2024-04-26; Footprint Doc: WLSCP-9; Value: BMM350; Supplier 1: Digi-Key; Supplier Part Number 1: 828-BMM350CT-ND; Supplier 2: Mouser; Supplier Part Number 2: 262-BMM350; Artikkelnr Noca: N.A.; Part number IPS: N.A.; Part number Norautron: N.A.
footprint BGA9C40P3X3_128X128X54
pins: A1 INT (out), A2 SDA (io), A3 SCK (in), B1 GND (power), B2 ADSEL (power), B3 VDDIO (power), C1 VDD (power), C2 CRST (power), C3 BYPASS (power)

## BMM350_1
designator U?, comment BMM350
Magnetoresistive Sensor X, Y, Z Axis 9-WLCSP (1.28x1.28); Manufacturer: Bosch Sensortec; Part number NEMS: 101900817; Component Status: Active; Pad Count: 9; Note: N.A.; Part Number: BMM350; PartId: 101900817; Component Class: Misc_ICs; Author: getr; Manufacturer Part Number: BMM350; ComponentLink1URL: https://www.bosch-sensortec.com/media/boschsensortec/downloads/datasheets/bst-bmm350-ds001.pdf; ComponentLink1Description: Datasheet; ComponentLink2URL: https://www.digikey.no/en/products/detail/bosch-sensortec/BMM350/17827576; ComponentLink2Description: Supplier link; HelpURL: https://www.bosch-sensortec.com/products/motion-sensors/magnetometers/bmm350/#description; LatestRevisionDate: 2024-04-26; Published: 2024-04-26; Footprint Doc: WLSCP-9; Value: BMM350; Supplier 1: Digi-Key; Supplier Part Number 1: 828-BMM350CT-ND; Supplier 2: Mouser; Supplier Part Number 2: 262-BMM350; Artikkelnr Noca: N.A.; Part number IPS: N.A.; Part number Norautron: N.A.
footprint BGA9C40P3X3_128X128X54
pins: A1 INT (out), A2 SDA (io), A3 SCK (in), B1 GND (power), B2 ADSEL (power), B3 VDDIO (power), C1 VDD (power), C2 CRST (power), C3 BYPASS (power)

## BNX024H01L
designator FL?, comment Manufacturer Part Number: BNX024H01L  (hidden comment: FILTER LC 4.7UF SMD)
LC EMI Filter 5th Order Low Pass 2 Channel C = 4.7µF 20 A 4-SMD, No Lead; Order Code: Digi: 490-7833-2-ND; LCSC Manufacturer Part Number: BNX024H01L; LCSC Part Number: C124739
footprint Murata_BNX02_MFG
pins: 1 B, 2 CB, 3 PSG, 4 CG

## BS140WS-7
designator D?, comment Manufacturer Part Number: B140WS-7  (hidden comment: DIODE SCHOTTKY 40V 1A SOD323)
Diode 40 V 1A Surface Mount SOD-323; Order Code: Digi: B140WS-7DITR-ND; LCSC Manufacturer Part Number: B140WS-7; LCSC Part Number: C95171
footprint SOD-323_L1.8-W1.3-LS2.5-RD
pins: 1 K, 2 A

## BSS138LT1G
designator Q?
MOSFET N-CH 50V 200mA SOT-23; Manufacturer: ON Semiconductor; Gate to Source Voltage (Vgs): 5V; Rds On Max: 3.5R; Input Capacitance: 50pF; Max Power Dissipation: 225mW; Turn-Off Delay Time: 20ns; Element Configuration: Single; Polarity: N-CHANNEL; Number of Channels: 1; Supplier 1: Digikey; Manufacturer Part Number: BSS138LT1G; RoHS: Yes; Category: MOSFETs; Stock 1: 402000; Pricing 1: 3000=0.06451, 6000=0.05984, 9000=0.04962, 30000=0.04875, 75000=0.04378, 150000=0.03795 (USD); Case/Package: SOT-23-3; Number of Pins: 3; Weight: 0.001058oz; Min Operating Temperature: -55°C; Max Operating Temperature: 150°C; Continuous Drain Current (ID): 200mA; Package Quantity: 3000; Packaging: Tape and Reel; Drain to Source Resistance: 3.5R; Turn-On Delay Time: 20ns; Voltage Rating (DC): 50V; Current Rating: 200mA; Series: -; Length: 2.9mm; Width: 1.3mm; Height: 0.94mm; RoHS Compliant: Yes; Lead Free: Lead Free; Halogen Free: Halogen Free; ComponentLink1URL: https://datasheet.ciiva.com/22641/1596366-22641636.pdf?src-supplier=Element14; ComponentLink1Description: https://datasheet.ciiva.com/22641/1596366-22641636.pdf?src-supplier=Element14; ComponentLink2URL: https://datasheet.ciiva.com/1190/1596366-1190136.pdf?src-supplier=Element14; ComponentLink2Description: https://datasheet.ciiva.com/1190/1596366-1190136.pdf?src-supplier=Element14; ComponentLink3URL: https://datasheet.ciiva.com/1190/1596366-1190137.pdf?src-supplier=Element14; ComponentLink3Description: https://datasheet.ciiva.com/1190/1596366-1190137.pdf?src-supplier=Element14; ComponentLink4URL: https://datasheet.ciiva.com/14553/70099493-14553829.pdf?src-supplier=Allied+Electronics; ComponentLink4Description: https://datasheet.ciiva.com/14553/70099493-14553829.pdf?src-supplier=Allied+Electronics; ComponentLink5URL: https://datasheet.ciiva.com/8115/bss138lt1-d-8115295.pdf?src-supplier=Avnet; ComponentLink5Description: https://datasheet.ciiva.com/8115/bss138lt1-d-8115295.pdf?src-supplier=Avnet; ComponentLink6URL: https://datasheet.ciiva.com/15198/getdatasheetpartid-110266-15198908.pdf?src-supplier=Verical; ComponentLink6Description: https://datasheet.ciiva.com/15198/getdatasheetpartid-110266-15198908.pdf?src-supplier=Verical; Supplier Part Number 1: BSS138LT1GOSTR-ND
footprint SOT95P237X111-3N
pins: 1 G, 2 S, 3 D

## BU2032SM-G
designator BAT?
Battery Holder Coin 20MM SMD; Manufacturer: Memory Protection Devices; Manufacturer Part Number: BU2032SM-G; Number of Cells: 1; Number of Contacts: 2NUMBER; Supplier 1: Digikey; RoHS: Yes; Category: Uncategorized; Stock 1: 17897; Pricing 1: 400=0.81163, 800=0.76195, 1200=0.71225, 2800=0.646, 10000=0.5963 (USD); Mount: Surface Mount,PCB; Case/Package: SMD/SMT; Contact Material: 153,157ConductorMaterial; Min Operating Temperature: -40°C; Max Operating Temperature: 315°C; Termination: SMD/SMT; Series: -; Packaging: Cut Tape; Height: 5.3mm; ComponentLink1URL: https://datasheet.ciiva.com/7613/bu2032sm-g-datasheet-7613472.pdf?src-supplier=Digikey; ComponentLink1Description: https://datasheet.ciiva.com/7613/bu2032sm-g-datasheet-7613472.pdf?src-supplier=Digikey; Supplier Part Number 1: BU2032SM-GTR-ND
footprint BAT_BU2032SM-G
pins: NEG, POS

## BZT52C15T-7
designator D?, comment Zener Voltage: 15V  Manufacturer Part Number: BZT52C15T-7  (hidden comment: TVS DIODE 20.5VWM 33.2VC DO214AC)
Zener Diode 15 V 300 mW ±6% Surface Mount SOD-523; Order Code: DIGI: BZT52C15T-7DITR-ND
footprint SOD_523
pins: 1 C, 2 A

## BZX84C3V3LT1G
designator Z?
Zener Diode; Manufacturer_Name: onsemi; Datasheet Link: http://www.onsemi.com/pub/Collateral/BZX84C2V4LT1-D.PDF; Height: 1.11mm; Manufacturer_Part_Number: BZX84C3V3LT1G; Mouser Part Number: 863-BZX84C3V3LT1G; Mouser Price/Stock: https://www.mouser.co.uk/ProductDetail/onsemi/BZX84C3V3LT1G?qs=vNc2DXHODiIKL62%252Be6h8Pg%3D%3D; Arrow Part Number: BZX84C3V3LT1G; Arrow Price/Stock: https://www.arrow.com/en/products/bzx84c3v3lt1g/on-semiconductor?region=europe
footprint SOT96P237X111-3N
pins: 1 A, 2 NC, 3 K

## C0201-0.7p-50V-C0G-GJM0335C1HR70WB01
designator C?, comment 0.7pF
Capacitor, Ceramic, C0G, ±0.05pF, 50V; Part Number: C0201-0.7p-50V-C0G-GJM0335C1HR70WB01; Manufacturer: Murata; Manufacturer Part Number: GJM0335C1HR70WB01D; Part number NEMS: 100200011; Pad Count: 2; Artikkelnr Noca: N.A.; Component Status: Active; Value: 0.7pF; Footprint Doc: 0201; Component Class: Capacitors; Author: rsk; ComponentLink1Description: Datasheet; ComponentLink1URL: https://search.murata.co.jp/Ceramy/image/img/A01X/G101/ENG/GJM0335C1HR70WB01-01.pdf; ComponentLink2Description: Supplier link; ComponentLink2URL: https://www.murata.com/en-global/products/productdetail?partno=GJM0335C1HR70WB01%23; HelpURL: N.A.; LatestRevisionDate: 2023-03-27; Note: 50V; PartId: 100200011; Part number IPS: N.A.; Part number Norautron: N.A.; Published: 2014-11-13; Supplier 1: Digi-Key; Supplier 2: Mouser; Supplier Part Number 1: 490-17145-1-ND; Supplier Part Number 2: 81-GJM0335C1HR70WB1D
footprint CAPC0603X03L_C
pins: 1, 2

## C0201-0.7p-50V-C0G-GJM0335C1HR70WB01_1
designator C?, comment 0.7pF
Capacitor, Ceramic, C0G, ±0.05pF, 50V; Part Number: C0201-0.7p-50V-C0G-GJM0335C1HR70WB01; Manufacturer: Murata; Manufacturer Part Number: GJM0335C1HR70WB01D; Part number NEMS: 100200011; Pad Count: 2; Artikkelnr Noca: N.A.; Component Status: Active; Value: 0.7pF; Footprint Doc: 0201; Component Class: Capacitors; Author: rsk; ComponentLink1Description: Datasheet; ComponentLink1URL: https://search.murata.co.jp/Ceramy/image/img/A01X/G101/ENG/GJM0335C1HR70WB01-01.pdf; ComponentLink2Description: Supplier link; ComponentLink2URL: https://www.murata.com/en-global/products/productdetail?partno=GJM0335C1HR70WB01%23; HelpURL: N.A.; LatestRevisionDate: 2023-03-27; Note: 50V; PartId: 100200011; Part number IPS: N.A.; Part number Norautron: N.A.; Published: 2014-11-13; Supplier 1: Digi-Key; Supplier 2: Mouser; Supplier Part Number 1: 490-17145-1-ND; Supplier Part Number 2: 81-GJM0335C1HR70WB1D
footprint CAPC0603X03L_C
pins: 1, 2

## C0201-1n0
designator C?, comment 1.0nF
Capacitor, X7R, ±10%, 25V; Part Number: C0201-1n0; Manufacturer: N.A.; Part number IPS: 00000003206; Part number NEMS: 100200056; Component Status: Active; Pad Count: 2; Note: 16V; PartId: 100200056; Component Class: Capacitors; Author: rsk; Manufacturer Part Number: N.A.; ComponentLink1URL: N.A.; ComponentLink1Description: Datasheet; ComponentLink2URL: N.A.; ComponentLink2Description: Supplier link; HelpURL: N.A.; LatestRevisionDate: 2020-10-13; Published: 2014-11-13; Footprint Doc: 0201; Value: 1.0nF; Supplier 1: N.A.; Supplier Part Number 1: N.A.; Supplier 2: N.A.; Supplier Part Number 2: N.A.; Artikkelnr Noca: N.A.; Part number Norautron: N.A.
footprint CAPC0603X03L_C
pins: 1, 2

## C0201-1n0_1
designator C?, comment 1.0nF
Capacitor, X7R, ±10%, 25V; Part Number: C0201-1n0; Manufacturer: N.A.; Part number IPS: 00000003206; Part number NEMS: 100200056; Component Status: Active; Pad Count: 2; Note: 16V; PartId: 100200056; Component Class: Capacitors; Author: rsk; Manufacturer Part Number: N.A.; ComponentLink1URL: N.A.; ComponentLink1Description: Datasheet; ComponentLink2URL: N.A.; ComponentLink2Description: Supplier link; HelpURL: N.A.; LatestRevisionDate: 2020-10-13; Published: 2014-11-13; Footprint Doc: 0201; Value: 1.0nF; Supplier 1: N.A.; Supplier Part Number 1: N.A.; Supplier 2: N.A.; Supplier Part Number 2: N.A.; Artikkelnr Noca: N.A.; Part number Norautron: N.A.
footprint CAPC0603X03L_C
pins: 1, 2

## C0201-1µ0
designator C?, comment 1.0µF
Capacitor, X5R, ±10%; Part Number: C0201-1µ0; Manufacturer: N.A.; Part number IPS: 00000001723; Part number NEMS: 100200084; Pad Count: 2; Component Status: Active; Note: 10V; Component Class: Capacitors; Author: rsk; Footprint Doc: 0201; Value: 1.0µF; PartId: 100200084; Manufacturer Part Number: N.A.; ComponentLink1URL: N.A.; ComponentLink1Description: Datasheet; ComponentLink2URL: N.A.; ComponentLink2Description: Supplier link; HelpURL: N.A.; LatestRevisionDate: 2016-08-22; Published: 2009-05-08; Supplier 1: Digi-Key; Supplier Part Number 1: 1276-6795-1-ND; Supplier 2: N.A.; Supplier Part Number 2: N.A.; Artikkelnr Noca: N.A.; Part number Norautron: N.A.
footprint CAPC0603X03L_C
pins: 1, 2

## C0201-1µ0_1
designator C?, comment 1.0µF
Capacitor, X5R, ±10%; Part Number: C0201-1µ0; Manufacturer: N.A.; Part number IPS: 00000001723; Part number NEMS: 100200084; Pad Count: 2; Component Status: Active; Note: 10V; Component Class: Capacitors; Author: rsk; Footprint Doc: 0201; Value: 1.0µF; PartId: 100200084; Manufacturer Part Number: N.A.; ComponentLink1URL: N.A.; ComponentLink1Description: Datasheet; ComponentLink2URL: N.A.; ComponentLink2Description: Supplier link; HelpURL: N.A.; LatestRevisionDate: 2016-08-22; Published: 2009-05-08; Supplier 1: Digi-Key; Supplier Part Number 1: 1276-6795-1-ND; Supplier 2: N.A.; Supplier Part Number 2: N.A.; Artikkelnr Noca: N.A.; Part number Norautron: N.A.
footprint CAPC0603X03L_C
pins: 1, 2

## C0201-2n2
designator C?, comment 2.2nF
Capacitor, X7R, ±10%, 10V; Part Number: C0201-2n2; Part number IPS: 00000001778; Part number Norautron: 26470002; Part number NEMS: 100200060; Pad Count: 2; Artikkelnr Noca: N.A.; Component Status: Active; Value: 2.2nF; Footprint Doc: 0201; Component Class: Capacitors; Author: rsk; ComponentLink1Description: Datasheet; ComponentLink1URL: N.A.; ComponentLink2Description: Supplier link; ComponentLink2URL: N.A.; HelpURL: N.A.; LatestRevisionDate: 2014-11-13; Manufacturer: N.A.; Manufacturer Part Number: N.A.; Note: 10V; PartId: 100200060; Published: 2014-11-13; Supplier 1: N.A.; Supplier 2: N.A.; Supplier Part Number 1: N.A.; Supplier Part Number 2: N.A.
footprint CAPC0603X03L_C
pins: 1, 2

## C0201-2n2_1
designator C?, comment 2.2nF
Capacitor, X7R, ±10%, 10V; Part Number: C0201-2n2; Part number IPS: 00000001778; Part number Norautron: 26470002; Part number NEMS: 100200060; Pad Count: 2; Artikkelnr Noca: N.A.; Component Status: Active; Value: 2.2nF; Footprint Doc: 0201; Component Class: Capacitors; Author: rsk; ComponentLink1Description: Datasheet; ComponentLink1URL: N.A.; ComponentLink2Description: Supplier link; ComponentLink2URL: N.A.; HelpURL: N.A.; LatestRevisionDate: 2014-11-13; Manufacturer: N.A.; Manufacturer Part Number: N.A.; Note: 10V; PartId: 100200060; Published: 2014-11-13; Supplier 1: N.A.; Supplier 2: N.A.; Supplier Part Number 1: N.A.; Supplier Part Number 2: N.A.
footprint CAPC0603X03L_C
pins: 1, 2

## C0201-2µ2-10V-X5R-GRM033R61A225KE47
designator C?, comment 2.2µF
Capacitor, Ceramic, 2.2µF 10V X5R 0201,±10%; Part Number: C0201-2µ2-10V-X5R-GRM033R61A225KE47; Manufacturer: Murata; Manufacturer Part Number: GRM033R61A225KE47D; Part number NEMS: 100200496; Pad Count: 2; Artikkelnr Noca: N.A.; Component Status: Active; Component Class: Capacitors; Author: prbu; ComponentLink1URL: https://www.murata.com/en-sg/products/productdetail?partno=GRM033R61A225KE47%23; ComponentLink1Description: Datasheet; ComponentLink2URL: https://www.mouser.com/ProductDetail/Murata-Electronics/GRM033R61A225KE47D?qs=I53XXhTNm8tqgHaFsI1bug%3D%3D; ComponentLink2Description: Supplier link; HelpURL: N.A.; Footprint Doc: 0201; LatestRevisionDate: 2021-12-09; Published: 2021-12-09; Value: 2.2µF; Note: 10V; Supplier 1: Mouser; Supplier Part Number 1: 81-GRM033R61A225KE7D; Supplier 2: Digi-Key; Supplier Part Number 2: 490-13227-1-ND; Part number IPS: N.A.; Part number Norautron: N.A.; PartId: 100200496
footprint CAPC0603X03L_C
pins: 1, 2

## C0201-2µ2-10V-X5R-GRM033R61A225KE47_1
designator C?, comment 2.2µF
Capacitor, Ceramic, 2.2µF 10V X5R 0201,±10%; Part Number: C0201-2µ2-10V-X5R-GRM033R61A225KE47; Manufacturer: Murata; Manufacturer Part Number: GRM033R61A225KE47D; Part number NEMS: 100200496; Pad Count: 2; Artikkelnr Noca: N.A.; Component Status: Active; Component Class: Capacitors; Author: prbu; ComponentLink1URL: https://www.murata.com/en-sg/products/productdetail?partno=GRM033R61A225KE47%23; ComponentLink1Description: Datasheet; ComponentLink2URL: https://www.mouser.com/ProductDetail/Murata-Electronics/GRM033R61A225KE47D?qs=I53XXhTNm8tqgHaFsI1bug%3D%3D; ComponentLink2Description: Supplier link; HelpURL: N.A.; Footprint Doc: 0201; LatestRevisionDate: 2021-12-09; Published: 2021-12-09; Value: 2.2µF; Note: 10V; Supplier 1: Mouser; Supplier Part Number 1: 81-GRM033R61A225KE7D; Supplier 2: Digi-Key; Supplier Part Number 2: 490-13227-1-ND; Part number IPS: N.A.; Part number Norautron: N.A.; PartId: 100200496
footprint CAPC0603X03L_C
pins: 1, 2

## C0201-10n
designator C?, comment 10nF
Capacitor, X7R, ±10%; Part Number: C0201-10n; Manufacturer: N.A.; Part number IPS: 00000003480; Part number Norautron: 26621779; Part number NEMS: 100200067; Note: 10V; Pad Count: 2; Component Status: Active; Manufacturer Part Number: N.A.; Footprint Doc: 0201; LatestRevisionDate: 2017-11-09; Published: 2014-11-13; Value: 10nF; Artikkelnr Noca: N.A.; ComponentLink1URL: N.A.; ComponentLink1Description: Datasheet; ComponentLink2URL: N.A.; ComponentLink2Description: Supplier link; HelpURL: N.A.; Supplier 1: N.A.; Supplier Part Number 1: N.A.; Supplier 2: N.A.; Supplier Part Number 2: N.A.; Author: rsk; Component Class: Capacitors; PartId: 100200067
footprint CAPC0603X03L_C
pins: 1, 2

## C0201-10n-16V-X7R-GRM033R71C103KE14
designator C?, comment 10nF
Capacitor, Ceramic, 10nF 16V X7R 0201,±10%; Part Number: C0201-10n-16V-X7R-GRM033R71C103KE14; Manufacturer: Murata; Manufacturer Part Number: GRM033R71C103KE14D; Part number NEMS: 100200491; Pad Count: 2; Artikkelnr Noca: N.A.; Component Status: Active; Component Class: Capacitors; Author: prbu; ComponentLink1URL: https://www.murata.com/en-sg/products/productdetail?partno=GRM033R71C103KE14%23; ComponentLink1Description: Datasheet; ComponentLink2URL: https://www.mouser.com/ProductDetail/Murata-Electronics/GRM033R71C103KE14D?qs=QzBtWTOodeUmwPFZnw4Ogg%3D%3D; ComponentLink2Description: Supplier link; HelpURL: N.A.; Footprint Doc: 0201; LatestRevisionDate: 2021-12-09; Published: 2021-12-09; Value: 10nF; Note: 16V; Supplier 1: Digi-Key; Supplier Part Number 1: 490-14453-1-ND; Supplier 2: Mouser; Supplier Part Number 2: 81-GRM033R71C103KE4D; Part number IPS: N.A.; Part number Norautron: N.A.; PartId: 100200491
footprint CAPC0603X03L_C
pins: 1, 2

## C0201-10n-16V-X7R-GRM033R71C103KE14_1
designator C?, comment 10nF
Capacitor, Ceramic, 10nF 16V X7R 0201,±10%; Part Number: C0201-10n-16V-X7R-GRM033R71C103KE14; Manufacturer: Murata; Manufacturer Part Number: GRM033R71C103KE14D; Part number NEMS: 100200491; Pad Count: 2; Artikkelnr Noca: N.A.; Component Status: Active; Component Class: Capacitors; Author: prbu; ComponentLink1URL: https://www.murata.com/en-sg/products/productdetail?partno=GRM033R71C103KE14%23; ComponentLink1Description: Datasheet; ComponentLink2URL: https://www.mouser.com/ProductDetail/Murata-Electronics/GRM033R71C103KE14D?qs=QzBtWTOodeUmwPFZnw4Ogg%3D%3D; ComponentLink2Description: Supplier link; HelpURL: N.A.; Footprint Doc: 0201; LatestRevisionDate: 2021-12-09; Published: 2021-12-09; Value: 10nF; Note: 16V; Supplier 1: Digi-Key; Supplier Part Number 1: 490-14453-1-ND; Supplier 2: Mouser; Supplier Part Number 2: 81-GRM033R71C103KE4D; Part number IPS: N.A.; Part number Norautron: N.A.; PartId: 100200491
footprint CAPC0603X03L_C
pins: 1, 2

## C0201-10n-25V-X5R
designator C?, comment 10nF
Capacitor, Ceramic, X5R, ±10%, 25V; Part Number: C0201-10n-25V-X5R; Manufacturer: Murata; Manufacturer Part Number: GRM033R61E103KA12D; Part number NEMS: 100200458; Artikkelnr Noca: N.A.; Pad Count: 2; Component Status: Active; LatestRevisionDate: 2020-12-16; Published: 2020-12-16; Value: 10nF; Note: 25V; Footprint Doc: 0201; Part number IPS: N.A.; ComponentLink1URL: https://search.murata.co.jp/Ceramy/image/img/A01X/G101/ENG/GRM033R61E103KA12-01.pdf; ComponentLink1Description: Datasheet; ComponentLink2URL: https://www.murata.com/en-global/products/productdetail?partno=GRM033R61E103KA12%23; ComponentLink2Description: Supplier link; HelpURL: N.A.; Supplier 1: Digi-Key; Supplier Part Number 1: 490-7194-1-ND; Supplier 2: Mouser; Supplier Part Number 2: 81-GRM033R61E103KA2D; Component Class: Capacitors; PartId: 100200458; Author: rsk; Part number Norautron: N.A.
footprint CAPC0603X03L_C
pins: 1, 2

## C0201-10n-25V-X5R_1
designator C?, comment 10nF
Capacitor, Ceramic, X5R, ±10%, 25V; Part Number: C0201-10n-25V-X5R; Manufacturer: Murata; Manufacturer Part Number: GRM033R61E103KA12D; Part number NEMS: 100200458; Artikkelnr Noca: N.A.; Pad Count: 2; Component Status: Active; LatestRevisionDate: 2020-12-16; Published: 2020-12-16; Value: 10nF; Note: 25V; Footprint Doc: 0201; Part number IPS: N.A.; ComponentLink1URL: https://search.murata.co.jp/Ceramy/image/img/A01X/G101/ENG/GRM033R61E103KA12-01.pdf; ComponentLink1Description: Datasheet; ComponentLink2URL: https://www.murata.com/en-global/products/productdetail?partno=GRM033R61E103KA12%23; ComponentLink2Description: Supplier link; HelpURL: N.A.; Supplier 1: Digi-Key; Supplier Part Number 1: 490-7194-1-ND; Supplier 2: Mouser; Supplier Part Number 2: 81-GRM033R61E103KA2D; Component Class: Capacitors; PartId: 100200458; Author: rsk; Part number Norautron: N.A.
footprint CAPC0603X03L_C
pins: 1, 2

## C0201-10n_1
designator C?, comment 10nF
Capacitor, X7R, ±10%; Part Number: C0201-10n; Manufacturer: N.A.; Part number IPS: 00000003480; Part number Norautron: 26621779; Part number NEMS: 100200067; Note: 10V; Pad Count: 2; Component Status: Active; Manufacturer Part Number: N.A.; Footprint Doc: 0201; LatestRevisionDate: 2017-11-09; Published: 2014-11-13; Value: 10nF; Artikkelnr Noca: N.A.; ComponentLink1URL: N.A.; ComponentLink1Description: Datasheet; ComponentLink2URL: N.A.; ComponentLink2Description: Supplier link; HelpURL: N.A.; Supplier 1: N.A.; Supplier Part Number 1: N.A.; Supplier 2: N.A.; Supplier Part Number 2: N.A.; Author: rsk; Component Class: Capacitors; PartId: 100200067
footprint CAPC0603X03L_C
pins: 1, 2

## C0201-10p
designator C?, comment 10pF  Assembly: DNM
Capacitor, C0G, ±5%, 25V; Part Number: C0201-10p; Manufacturer: Murata; Manufacturer Part Number: GRM0335C1E100JA01D; Part number IPS: 00000003191; Part number NEMS: 100200032; Note: Chip Cap 1%; Artikkelnr Noca: N.A.; Pad Count: 2; Component Status: Active; LatestRevisionDate: 2020-10-13; Published: 2014-11-13; Value: 10pF; Footprint Doc: 0201; ComponentLink1URL: N.A.; ComponentLink1Description: Datasheet; ComponentLink2URL: N.A.; ComponentLink2Description: Supplier link; HelpURL: N.A.; Supplier 1: N.A.; Supplier Part Number 1: N.A.; Supplier 2: N.A.; Supplier Part Number 2: N.A.; Component Class: Capacitors; PartId: 100200032; Author: rsk; Part number Norautron: N.A.
footprint CAPC0603X03L_C
pins: 1, 2

## C0201-10p_1
designator C?, comment 10pF  Assembly: DNM
Capacitor, C0G, ±5%, 25V; Part Number: C0201-10p; Manufacturer: Murata; Manufacturer Part Number: GRM0335C1E100JA01D; Part number IPS: 00000003191; Part number NEMS: 100200032; Note: Chip Cap 1%; Artikkelnr Noca: N.A.; Pad Count: 2; Component Status: Active; LatestRevisionDate: 2020-10-13; Published: 2014-11-13; Value: 10pF; Footprint Doc: 0201; ComponentLink1URL: N.A.; ComponentLink1Description: Datasheet; ComponentLink2URL: N.A.; ComponentLink2Description: Supplier link; HelpURL: N.A.; Supplier 1: N.A.; Supplier Part Number 1: N.A.; Supplier 2: N.A.; Supplier Part Number 2: N.A.; Component Class: Capacitors; PartId: 100200032; Author: rsk; Part number Norautron: N.A.
footprint CAPC0603X03L_C
pins: 1, 2